# EAGLE library part RX2 (library ads4)
Radiometrix RX2 Receiver
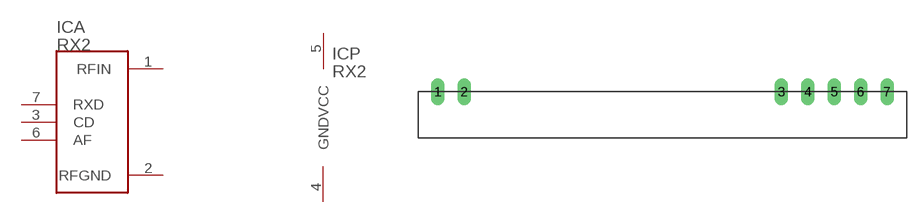
[diagram p7: symbol with the pads of RX2; footprint RX2]

Designator prefix IC; gates A=RX2 P=POWER2

## RX2  [RX2]
1  A:RFIN  pas
2  A:RFGND  pas
3  A:CD  pas
4  P:GND  pwr
5  P:VCC  pwr
6  A:AF  pas
7  A:RXD  out

## Footprint RX2 (pad centres in mm)
drill 0.813 long: 1 -13.97,1.27; 2 -11.43,1.27; 3 19.05,1.27; 4 21.59,1.27; 5 24.13,1.27; 6 26.67,1.27; 7 29.21,1.27